# Altium schematic symbol library cap-pol-size-B.SchLib: 1 symbol
Pins are listed as number, name and electrical type; pins without a type are passive.

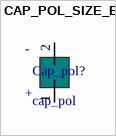
[diagram p0: symbol CAP_POL_SIZE_B]

## CAP_POL_SIZE_B
designator Cap_pol?, comment cap_pol
size B series S type V capacitor, panasonic elec
footprint cap_pol_size_B (panasonic seris s type v size B ex. EEE1CA100AR)
pins: 1, 2
text: -; +